# EAGLE library part LM2577S-ADJ_NOPB (library LM2577S-ADJ_NOPB)
DC-DC Converter Step Up 3.5-40V TO263-6 Texas Instruments LM2577S-ADJ/NOPB, Step Up DC-DC Converter, 3A, Adjustable, 1.23 12 V, 5-Pin TO-263 Source: Datasheet <http://uk.rs-online.com/web/p/products/7615505P>
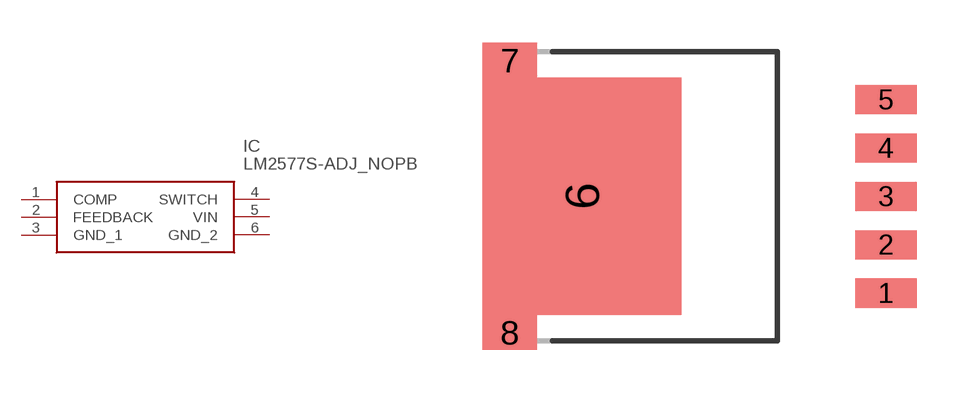
[diagram p0: symbol with the pads of KTT0005B; footprint KTT0005B]

Designator prefix IC

## LM2577S-ADJ_NOPB (Description: DC-DC Converter Step Up 3.5-40V TO263-6 Texas Instruments LM2577S-ADJ/NOPB, Step Up DC-DC Converter, 3A, Adjustable, 1.23 12 V, 5-Pin TO-263; Height: mm; Manufacturer_Name: Texas Instruments; Manufacturer_Part_Number: LM2577S-ADJ/NOPB; RS_Part_Number: 7615505P; RS_Price-Stock: http://uk.rs-online.com/web/p/products/7615505P)  [KTT0005B]
1  COMP
2  FEEDBACK
3  GND_1  pwr
4  SWITCH
5  VIN  pwr
6  GND_2  pwr

## Footprint KTT0005B (pad centres in mm)
KTT0005B
smd 2.16 x 1.02: 1 12.461,-3.4; 2 12.461,-1.7; 3 12.461,0; 4 12.461,1.7; 5 12.461,3.4
smd 6.99 x 8.33: 6 1.786,0
smd 1.91 x 1.235: 7 -0.754,4.782; 8 -0.754,-4.782